# Altium schematic symbol library S5B-ZR-SM4A-TF_LF__SN_.SchLib: 1 symbol
Pins are listed as number, name and electrical type; pins without a type are passive.

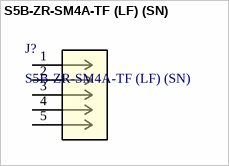
[diagram p0: symbol S5B-ZR-SM4A-TF (LF) (SN)]

## S5B-ZR-SM4A-TF (LF) (SN)
designator J?
No Description Available; Mfr_Name: JST; Copyright: Copyright (C) 2021 Ultra Librarian. All rights reserved.; Manufacturer_Part_Number: S5B-ZR-SM4A-TF (LF) (SN); RefDes: RefDes; Type: DEV
footprint CONN_S5B-ZR-SM4A-TF_JST
pins: 1, 2, 3, 4, 5